# EAGLE library part CO2ENGINEK30 (library _CO2Sensor)
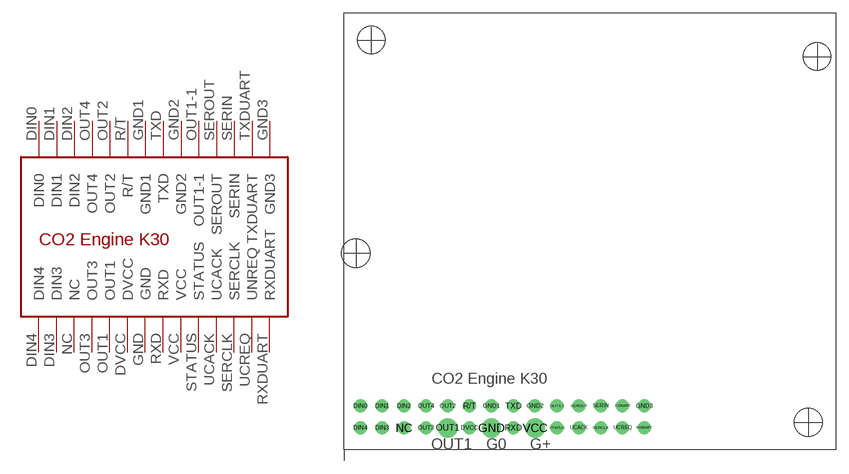
[diagram p0: symbol with the pads of CO2ENGINEK30; footprint CO2ENGINEK30]

Designator prefix -

## CO2ENGINEK30  [CO2ENGINEK30]
DIN0  DIN0
DIN1  DIN1
DIN2  DIN2
DIN3  DIN3
DIN4  DIN4
DVCC  DVCC
GND  GND
GND1  GND1
GND2  GND2
GND3  GND3
NC  NC
OUT1  OUT1
OUT1-1  OUT1-1
OUT2  OUT2
OUT3  OUT3
OUT4  OUT4
R/T  R/T
RXD  RXD
RXDUART  RXDUART
SERCLK  SERCLK
SERIN  SERIN
SEROUT  SEROUT
STATUS  STATUS
TXD  TXD
TXDUART  TXDUART
UCACK  UCACK
UCREQ  UNREQ
VCC  VCC

## Footprint CO2ENGINEK30 (pad centres in mm)
drill 1: DIN0 1.905,5.08; DIN1 4.445,5.08; DIN2 6.985,5.08; DIN3 4.445,2.54; DIN4 1.905,2.54; DVCC 14.605,2.54; GND1 17.145,5.08; GND2 22.225,5.08; GND3 34.925,5.08; NC 6.985,2.54; OUT1-1 24.765,5.08; OUT2 12.065,5.08; OUT3 9.525,2.54; OUT4 9.525,5.08; R/T 14.605,5.08; RXD 19.685,2.54; RXDUART 34.925,2.54; SERCLK 29.845,2.54; SERIN 29.845,5.08; SEROUT 27.305,5.08; STATUS 24.765,2.54; TXD 19.685,5.08; TXDUART 32.385,5.08; UCACK 27.305,2.54; UCREQ 32.385,2.54
drill 1.5: GND 17.145,2.54; OUT1 12.065,2.54; VCC 22.225,2.54